# Altium schematic symbol library MIC5205.SchLib: 1 symbol
Pins are listed as number, name and electrical type; pins without a type are passive.

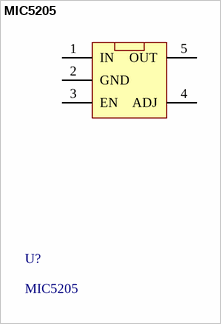
[diagram p0: symbol MIC5205]

## MIC5205
designator U?
pins: 1 IN (power), 2 GND (power), 3 EN, 4 ADJ (power), 5 OUT (power)